# Altium schematic symbol library RF Switch.SchLib: 8 symbols
Pins are listed as number, name and electrical type; pins without a type are passive.

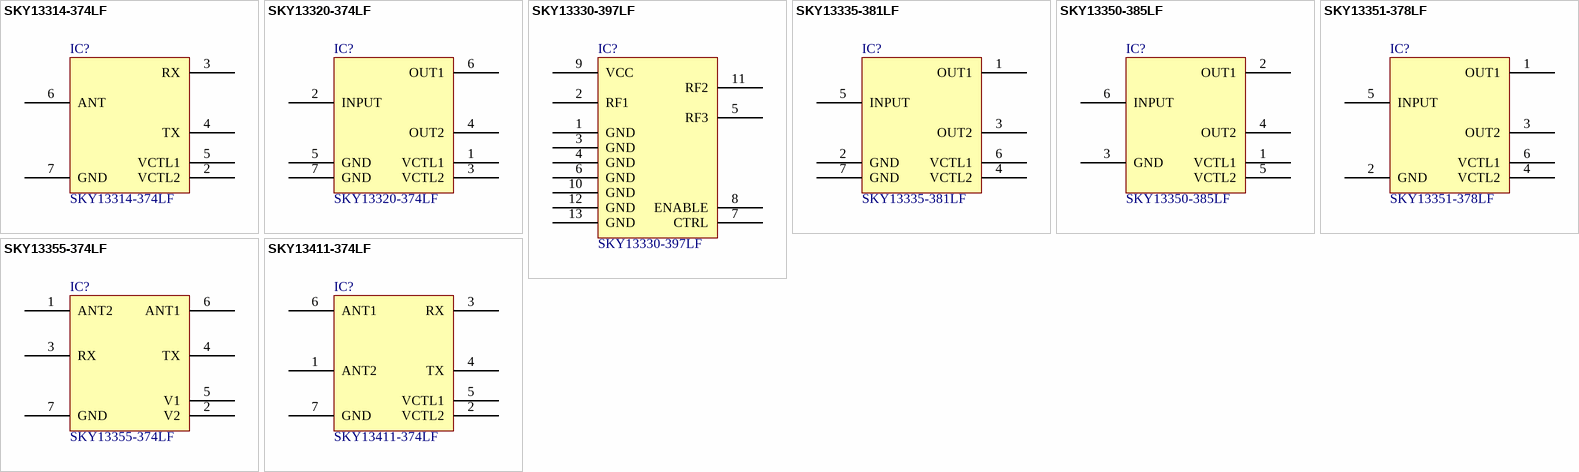
[diagram p0: symbols SKY13314-374LF to SKY13411-374LF]

## SKY13314-374LF
designator IC?
IC SWITCH SPDT 0.1-6.0GHZ 6-MLPD; Manufacturer: Skyworks Solutions Inc.; Frequency - Lower: 100MHz; Frequency - Upper: 6GHz; Isolation @ Frequency: 21dB @ 6GHz (typ); Insertion Loss @ Frequency: 0.6dB @ 6GHz; P1dB: 31dBm (typ) IP1dB; Topology: Reflective; IIP3: 47dBm (typ); Impedance: 50 Ohm; Part Number: SKY13314-374LF; PartId: 7893; Supplier 1: Digi-Key; Supplier Part Number 1: 863-1054-2-ND; ComponentLink1Description: Datasheet; ComponentLink1URL: http://www.skyworksinc.com/uploads/documents/SKY13314_374LF_200882H.pdf; ComponentLink2Description: Digi-Key Listing; ComponentLink2URL: http://www.digikey.com/product-detail/en/SKY13314-374LF/863-1054-2-ND/2052064; Price: 0.5275; Device Package: 6-XFDFN Exposed Pad; Circuit: SPDT; Voltage - Supply: -; Operating Temperature: -40C ~ 85C
footprint SKYWORKS DFN-6 1.5x1.5mm
pins: 2 VCTL2, 3 RX, 4 TX, 5 VCTL1, 6 ANT, 7 GND

## SKY13320-374LF
designator IC?
IC SWITCH SPDT 100M-6GHZ 6-MLPD; Manufacturer: Skyworks Solutions Inc.; Frequency - Lower: 100MHz; Frequency - Upper: 6GHz; Isolation @ Frequency: 24dB @ 6GHz; Insertion Loss @ Frequency: 0.6dB @ 6GHz; Topology: Reflective; IIP3: 52dBm (typ); Voltage - Supply: 1.8 V ~ 5 V; Impedance: 50 Ohm; Part Number: SKY13320-374LF; PartId: 7895; Supplier 1: Digi-Key; Supplier Part Number 1: 863-1058-2-ND; ComponentLink1Description: Datasheet; ComponentLink1URL: http://www.skyworksinc.com/uploads/documents/201097E.pdf; ComponentLink2Description: Digi-Key Listing; ComponentLink2URL: http://www.digikey.com/product-detail/en/SKY13320-374LF/863-1058-2-ND/2052068; Price: 0.935; Device Package: 6-XFDFN Exposed Pad; Circuit: SPDT; P1dB: -; Operating Temperature: -40C ~ 85C
footprint SKYWORKS DFN-6 1.5x1.5mm
pins: 1 VCTL1, 2 INPUT, 3 VCTL2, 4 OUT2, 5 GND, 6 OUT1, 7 GND

## SKY13330-397LF
designator IC?
IC SW SPDT 100MHZ-6GHZ 12-QFN; Manufacturer: Skyworks Solutions Inc.; Frequency - Lower: 100MHz; Frequency - Upper: 6GHz; Isolation @ Frequency: 21dB @ 6GHz (typ); Insertion Loss @ Frequency: 0.6dB @ 6GHz; P1dB: 39dBm; Voltage - Supply: 1.65 V ~ 2.7 V; Impedance: 50 Ohm; Part Number: SKY13330-397LF; PartId: 7888; Supplier 1: Digi-Key; Supplier Part Number 1: 863-1643-2-ND; ComponentLink1Description: Datasheet; ComponentLink1URL: http://www.skyworksinc.com/uploads/documents/201407C.pdf; ComponentLink2Description: Digi-Key Listing; ComponentLink2URL: http://www.digikey.com/product-detail/en/SKY13330-397LF/863-1643-2-ND/5396218; Price: 0.3575; Device Package: 12-UFQFN Exposed Pad; Circuit: SPDT; Topology: -; IIP3: -; Operating Temperature: -40C ~ 85C
footprint Skyworks QFN-12 2x2mm
pins: 1 GND, 2 RF1, 3 GND, 4 GND, 5 RF3, 6 GND, 7 CTRL, 8 ENABLE, 9 VCC, 10 GND, 11 RF2, 12 GND, 13 GND

## SKY13335-381LF
designator IC?
IC SE SPDT 0.1-6.0GHZ GAAS 6MLPD; Manufacturer: Skyworks Solutions Inc.; Frequency - Lower: 100MHz; Frequency - Upper: 6GHz; Isolation @ Frequency: 27dB @ 3GHz (typ); Insertion Loss @ Frequency: 0.5dB @ 3GHz; P1dB: 26dBm (typ) IP1dB; Topology: Reflective; IIP3: 41dBm (typ); Impedance: 50 Ohm; Part Number: SKY13335-381LF; PartId: 7891; Supplier 1: Digi-Key; Supplier Part Number 1: 863-1261-2-ND; ComponentLink1Description: Datasheet; ComponentLink1URL: http://www.skyworksinc.com/uploads/documents/201093C.pdf; ComponentLink2Description: Digi-Key Listing; ComponentLink2URL: http://www.digikey.com/product-detail/en/SKY13335-381LF/863-1261-2-ND/2408373; Price: 0.3525; Device Package: 6-XFDFN Exposed Pad; Circuit: SPDT; Voltage - Supply: -; Operating Temperature: -40C ~ 85C
footprint SKYWORKS MLPD-6 2x1.5mm
pins: 1 OUT1, 2 GND, 3 OUT2, 4 VCTL2, 5 INPUT, 6 VCTL1, 7 GND

## SKY13350-385LF
designator IC?
IC SWITCH SPDT 6GHZ 6MLPD; Manufacturer: Skyworks Solutions Inc.; Frequency - Lower: 10MHz; Isolation @ Frequency: 18dB @ 6GHz (typ); Insertion Loss @ Frequency: 0.6dB @ 6GHz; Topology: Reflective; IIP3: 46dBm (typ); Impedance: 50 Ohm; Part Number: SKY13350-385LF; PartId: 7892; Supplier 1: Digi-Key; Supplier Part Number 1: 863-1451-2-ND; ComponentLink1Description: Datasheet; ComponentLink1URL: http://www.skyworksinc.com/uploads/documents/SKY13350_385LF_201174G.pdf; ComponentLink2Description: Digi-Key Listing; ComponentLink2URL: http://www.digikey.com/product-detail/en/SKY13350-385LF/863-1451-2-ND/3131903; Price: 0.1712; Device Package: 6-XFDFN Exposed Pad; Frequency - Upper: 6GHz; Circuit: SPDT; P1dB: -; Voltage - Supply: -; Operating Temperature: -40C ~ 105C
footprint SKYWORKS XFDFN-6 1x1mm
pins: 1 VCTL1, 2 OUT1, 3 GND, 4 OUT2, 5 VCTL2, 6 INPUT

## SKY13351-378LF
designator IC?
IC SW SPDT 2.0-6GHZ GAAS 6MLPD; Manufacturer: Skyworks Solutions Inc.; Frequency - Lower: 20MHz; Frequency - Upper: 6GHz; Isolation @ Frequency: 26dB @ 6GHz (typ); Insertion Loss @ Frequency: 0.5dB @ 6GHz; Topology: Reflective; IIP3: 46dBm (typ); Impedance: 50 Ohm; Part Number: SKY13351-378LF; PartId: 7890; Supplier 1: Digi-Key; Supplier Part Number 1: 863-1177-2-ND; ComponentLink1Description: Datasheet; ComponentLink1URL: http://www.skyworksinc.com/uploads/documents/SKY13351_378LF_201132H.pdf; ComponentLink2Description: Digi-Key Listing; ComponentLink2URL: http://www.digikey.com/product-detail/en/SKY13351-378LF/863-1177-2-ND/2349598; Price: 0.305; Device Package: 6-XFDFN Exposed Pad; Circuit: SPDT; P1dB: -; Voltage - Supply: -; Operating Temperature: -40C ~ 85C
footprint SKYWORKS MLPD-6 1x1mm
pins: 1 OUT1, 2 GND, 3 OUT2, 4 VCTL2, 5 INPUT, 6 VCTL1

## SKY13355-374LF
designator IC?
IC SW DPDT 100MHZ-6GHZ 6-MLPD; Manufacturer: Skyworks Solutions Inc.; Frequency - Lower: 100MHz; Frequency - Upper: 6GHz; Isolation @ Frequency: 15dB @ 6GHz (typ); Insertion Loss @ Frequency: 0.9dB @ 6GHz; P1dB: 33dBm (typ) IP1dB; Topology: Reflective; IIP3: 55dBm (typ); Impedance: 50 Ohm; Part Number: SKY13355-374LF; PartId: 7889; Supplier 1: Digi-Key; Supplier Part Number 1: 683-1336-2-ND; ComponentLink1Description: Datasheet; ComponentLink1URL: http://www.skyworksinc.com/uploads/documents/201341C.pdf; ComponentLink2Description: Digi-Key Listing; ComponentLink2URL: http://www.digikey.com/product-detail/en/SKY13355-374LF/683-1336-2-ND/2658311; Price: 0.3975; Device Package: 6-XFDFN Exposed Pad; Circuit: DPDT; Voltage - Supply: -; Operating Temperature: -40C ~ 85C
footprint SKYWORKS DFN-6 1.5x1.5mm
pins: 1 ANT2, 2 V2, 3 RX, 4 TX, 5 V1, 6 ANT1, 7 GND

## SKY13411-374LF
designator IC?
IC SW DPDT 100MHZ-6GHZ 12-QFN; Manufacturer: Skyworks Solutions Inc.; Frequency - Lower: 100MHz; Frequency - Upper: 6GHz; Isolation @ Frequency: 14dB @ 6GHz (typ); Insertion Loss @ Frequency: 0.9dB @ 6GHz; P1dB: 30dBm (typ) IP1dB; Topology: Reflective; IIP3: 50dBm (typ); Impedance: 50 Ohm; Part Number: SKY13411-374LF; PartId: 7894; Supplier 1: Digi-Key; Supplier Part Number 1: 863-1455-2-ND; ComponentLink1Description: Datasheet; ComponentLink1URL: http://www.skyworksinc.com/uploads/documents/201665B.pdf; ComponentLink2Description: Digi-Key Listing; ComponentLink2URL: http://www.digikey.com/product-detail/en/SKY13411-374LF/863-1455-2-ND/3131908; Price: 0.3387; Device Package: 6-XFDFN Exposed Pad; Circuit: DPDT; Voltage - Supply: -; Operating Temperature: -40C ~ 85C
footprint SKYWORKS DFN-6 1.5x1.5mm
pins: 1 ANT2, 2 VCTL2, 3 RX, 4 TX, 5 VCTL1, 6 ANT1, 7 GND